# Altium schematic symbol library 2604-1103.SchLib: 1 symbol
Pins are listed as number, name and electrical type; pins without a type are passive.

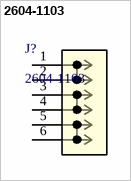
[diagram p0: symbol 2604-1103]

## 2604-1103
designator J?
Description; Manufacturer_Name: Wago; Copyright: Copyright (C) 2025 Ultra Librarian. All rights reserved.; Manufacturer_Part_Number: 2604-1103; RefDes: RefDes; Type: Type
footprint CONN3_2604-1103_WAG
pins: 1 1_1, 2 1_2, 3 2_1, 4 2_2, 5 3_1, 6 3_2